# Altium footprint library C320C.PcbLib: 1 footprints
Each footprint in its own frame and in the unit in brackets; x right, y up, seen from the top. Pads: shape width x height; smd on the part's side, far side on the other; paste and mask are expansions set on the pad; w line width, h text height; cw(c..) or ccw(c..) is an arc to the next point about the centre after c.
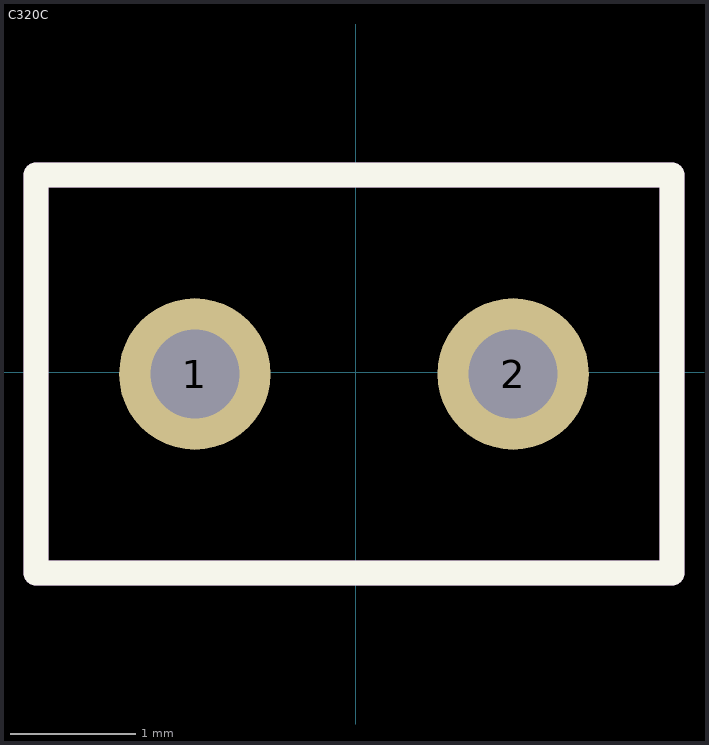
[diagram p0: the footprint, top view; thin cyan lines are the x and y axes]

## C320C [mm]
pads (2):
  round 1.21 hole 0.71: 1(-1.285,-0.015) 2(1.255,-0.015)
Top Overlay:
  lines w0.2: -2.555,-1.605 -2.555,1.575 2.525,1.575 2.525,-1.605 -2.555,-1.605
Assembly Top:
  lines w0.2: -2.555,-1.605 -2.555,1.575 2.525,1.575 2.525,-1.605 -2.555,-1.605
3D body "step_temp.STEP": height 6.34, standoff -7, extent -2.54,-1.59 2.535,1.59